# EAGLE library part STM32G431K (library Bits_library_eagle)
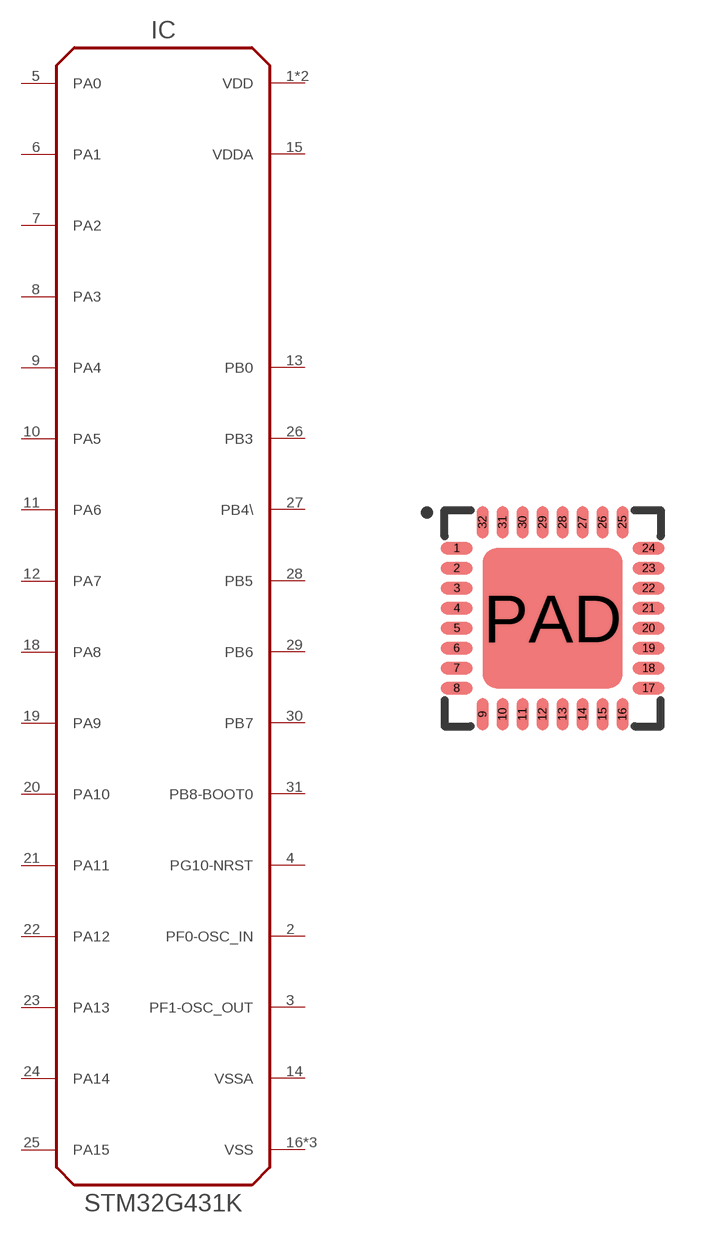
[diagram p51: symbol with the pads of UFQFPN32; footprint UFQFPN32]

Designator prefix IC

## STM32G431K  [UFQFPN32]
1  VDD  pwr
2  PF0-OSC_IN
3  PF1-OSC_OUT
4  PG10-NRST
5  PA0
6  PA1
7  PA2
8  PA3
9  PA4
10  PA5
11  PA6
12  PA7
13  PB0
14  VSSA  pwr
15  VDDA  pwr
16  VSS  pwr
17  VDD  pwr
18  PA8
19  PA9
20  PA10
21  PA11
22  PA12
23  PA13
24  PA14
25  PA15
26  PB3
27  PB4\
28  PB5
29  PB6
30  PB7
31  PB8-BOOT0
32  VSS  pwr
PAD  VSS  pwr

## Footprint UFQFPN32 (pad centres in mm)
smd 0.8 x 0.3: 1 -2.4,1.75; 2 -2.4,1.25; 3 -2.4,0.75; 4 -2.4,0.25; 5 -2.4,-0.25; 6 -2.4,-0.75; 7 -2.4,-1.25; 8 -2.4,-1.75; 17 2.4,-1.75; 18 2.4,-1.25; 19 2.4,-0.75; 20 2.4,-0.25; 21 2.4,0.25; 22 2.4,0.75; 23 2.4,1.25; 24 2.4,1.75
smd 0.3 x 0.8: 9 -1.75,-2.4; 10 -1.25,-2.4; 11 -0.75,-2.4; 12 -0.25,-2.4; 13 0.25,-2.4; 14 0.75,-2.4; 15 1.25,-2.4; 16 1.75,-2.4; 25 1.75,2.4; 26 1.25,2.4; 27 0.75,2.4; 28 0.25,2.4; 29 -0.25,2.4; 30 -0.75,2.4; 31 -1.25,2.4; 32 -1.75,2.4
smd 3.5 x 3.5: PAD 0,0